# Altium schematic symbol library CFS-0201MB.SchLib: 1 symbol
Pins are listed as number, name and electrical type; pins without a type are passive.

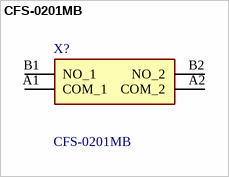
[diagram p0: symbol CFS-0201MB]

## CFS-0201MB
designator X?
SWITCH DIP SPST 100MA 6V Gullwing; Manufacturer_Name: Nidec Copal; Geometry.Height: 3.7mm; Farnell Part Number: *; Farnell Price/Stock: *; Manufacturer_Part_Number: CFS-0201MB; Datasheet Link: https://www.nidec-copal-electronics.com/e/catalog/switch/cfs.pdf
footprint CFS0201MB
pins: A1 COM_1, A2 COM_2, B1 NO_1, B2 NO_2